# Altium footprint library Components.PcbLib: 7 footprints
Each footprint in its own frame and in the unit in brackets; x right, y up, seen from the top. Pads: shape width x height; smd on the part's side, far side on the other; paste and mask are expansions set on the pad; w line width, h text height; cw(c..) or ccw(c..) is an arc to the next point about the centre after c.
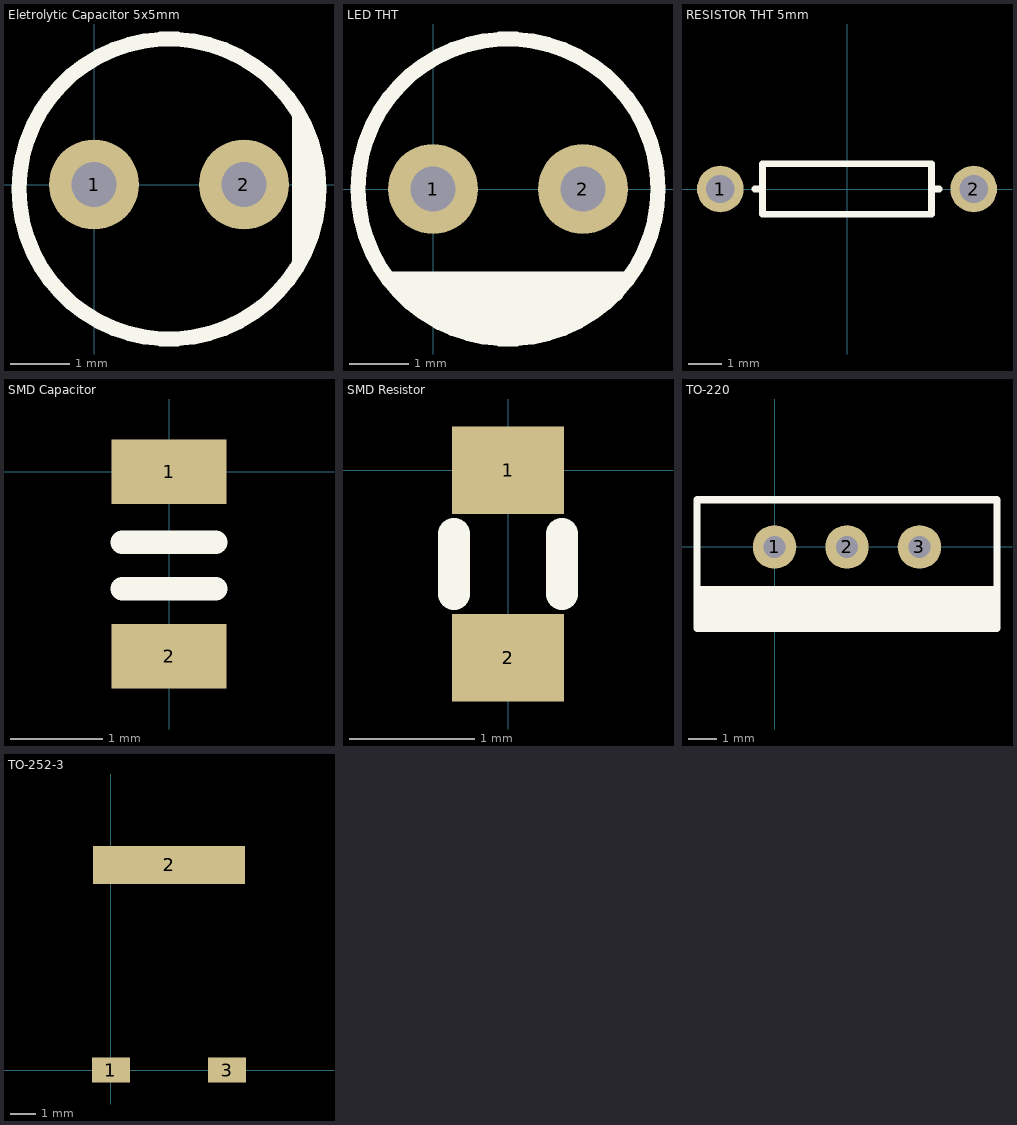
[diagram p0: the footprints below, top view; thin cyan lines are the x and y axes]

## Eletrolytic Capacitor 5x5mm [mil]
pads (2):
  round 60 hole 30: 1(0,0) 2(100,0)
Top Overlay:
  circle w10: c50,-3 r100
  lines w10: 137,-52 137,45 ; 142,27 142,-30 143,-31
3D body "Electrolytic Capacitor Radial 5x12.step": height 519.68, standoff -74.8, extent -50,-99 150,100.82

## LED THT [mil]
pads (2):
  round 60 hole 30: 1(0,0) 2(100,0)
Top Overlay:
  circle w10: c50,0 r100
  lines w10: -28,-60 127,-60 ; -18,-70 122,-70 ; -10,-79 106,-79 ; 4,-89 94,-89 ; 31,-94 65,-94
3D body "LED (Red).STEP": height 212, standoff -125, extent -28.49,-59 128.51,78.5

## RESISTOR THT 5mm [mm]
pads (2):
  round 1.4 hole 0.85: 1(-3.81,0) 2(3.81,0)
Top Overlay:
  lines w0.2: -2.769,0 -2.54,0 ; 2.769,0 2.54,0 ; 2.54,0 2.54,-0.762 -2.54,-0.762 -2.54,0.762 2.54,0.762 2.54,0
3D body "Resistor 0.0125W 3mm.step": height 2.55, standoff -6, extent -4.07,-1 4.07,1.1

## SMD Capacitor [mm]
pads (2):
  rect 1.25x0.7 smd: 1(0,0) 2(0,-2)
Top Overlay:
  lines w0.254: -0.508,-1.27 0.508,-1.27 ; -0.508,-0.762 0.508,-0.762
3D body "Capacitor SMD 0805.step": height 1, standoff 0, extent -0.625,-1.99 0.625,0.01

## SMD Resistor [mm]
pads (2):
  rect 0.9x0.7 smd: 1(0,0) 2(0,-1.5)
Top Overlay:
  lines w0.254: -0.432,-0.991 -0.432,-0.508 ; 0.432,-0.991 0.432,-0.508
3D body "SMD Resistor CRS0805.step": height 0.5, standoff 0, extent -0.624,-1.743 0.626,0.257

## TO-220 [mil] "TO-220 coupling"
pads (3):
  round 60 hole 30: 1(0,0) 2(100,0) 3(200,0)
Top Overlay:
  rectangle: -107,-112 306.97,-54
  lines w10: -107,-112 307,-112 307,65 -106.97,65 -107,-112
3D body "TO-220.STEP": height 810.24, standoff -331.5, extent -106.97,-112.16 306.97,65

## TO-252-3 [mm]
pads (3):
  rect 1.5x1 smd: 1(0,0) 3(4.6,0)
  rect 6x1.5 smd: 2(2.3,8.1)
3D body "TO-252-3.step": height 2.3, standoff -0.05, extent -0.95,-0.3 5.55,8.4